# EAGLE library part WE-TVS-HS_SOT563_82400152 (library Eagle_WE-TVS (rev22a))
WE-TVS TVS Diode – High Speed Series Characteristics Low clamping voltage Sturdy design Very low capacitance Flow Thru Design for a simple layout Rail to Rail protection Epoxy flame resistant UL94-V0 RoHS, REACH and free of halogens Applications Very fast data lines USB 2.0 Ethernet PoE VGA Sim Cards Keypads HS = High Speed <https://www.we-online.com/catalog/media/o14883v209%20Family_WE-TVS_HIGHSPEED.jpg> Details see: https://www.we-online.com/catalog/en/WE-TVS-HS Updated by Ella Wu 2019-07-12 2019 (C) Wurth Elektronik
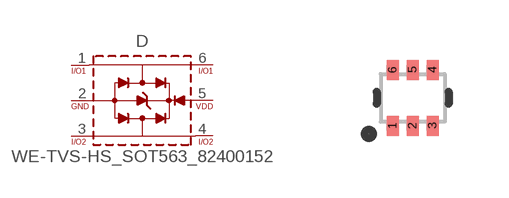
[diagram p5: symbol with the pads of WE-TVS_SOT563; footprint WE-TVS_SOT563]

Designator prefix D

## WE-TVS-HS_SOT563_82400152 (C-CH: 2pF; CHANNELS: 2+1; DATASHEET-URL: https://www.we-online.com/catalog/datasheet/82400152.pdf; IPEAK: 6A; MOUNT: SMT; PART-NUMBER: 82400152; VALUE: 5Vdc; VBR: 6V)  [WE-TVS_SOT563]
1  I/O1  pas
2  GND  pas
3  I/O2  pas
4  I/O4  pas
5  VDD  pas
6  I/O3  pas

## Footprint WE-TVS_SOT563 (pad centres in mm)
WE-TVS TVS Diode Size: SOT563 L X W X H = 1.6mm X1.6mm X 0.55mm
smd 0.3 x 0.5: 1 -0.5,-0.7; 2 0,-0.7; 3 0.5,-0.7; 4 0.5,0.7; 5 0,0.7; 6 -0.5,0.7